# EAGLE library part EG2219 (library radish)
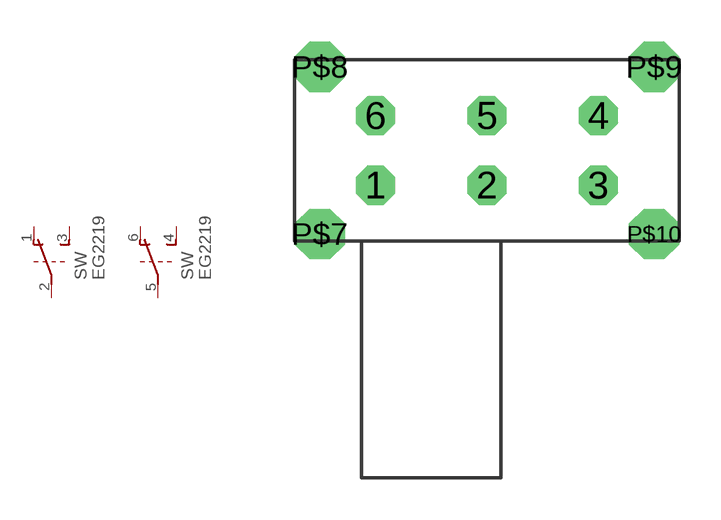
[diagram p11: symbol with the pads of EG2219; footprint EG2219]

Designator prefix SW; gates A=DPDT B=DPDT

## EG2219  [EG2219]
1  A:O  pas
2  A:P  pas
3  A:S  pas
4  B:S  pas
5  B:P  pas
6  B:O  pas

## Footprint EG2219 (pad centres in mm)
drill 0.9 octagon: 1 0,0; 2 4,0; 3 8,0; 4 8,2.5; 5 4,2.5; 6 0,2.5
drill 1.2 octagon: P$7 -2,-1.75; P$8 -2,4.25; P$9 10,4.25; P$10 10,-1.75